# EAGLE library part AD5624R (library Lin-Temp-Controller)
AD5624R Quad Output DAC w/internal Vref
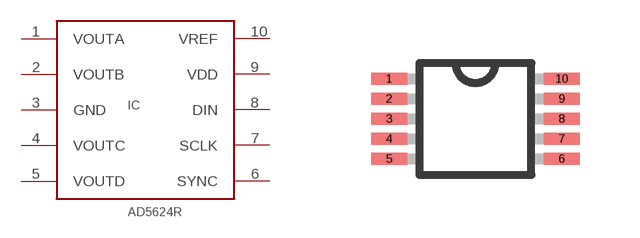
[diagram p2: symbol with the pads of MSOP10; footprint MSOP10]

Designator prefix IC

## AD5624R (DIGIKEY: AD5624RBRMZ-3-ND)  [MSOP10]
1  VOUTA  out
2  VOUTB  out
3  GND  pwr
4  VOUTC  out
5  VOUTD  out
6  SYNC
7  SCLK
8  DIN
9  VDD  pwr
10  VREF

## Footprint MSOP10 (pad centres in mm)
MSOP10 MSE Package 10-Lead Plastic MSOP (Reference LTC DWG # 05-08-1664) Auto generated by make-symbol-device-package-bsdl.ulp Rev. 43 Source: Data sheet <http://cds.linear.com/docs/Datasheet/3592fc.pdf>
smd 0.9 x 0.3: 1 -2.16,1; 2 -2.16,0.5; 3 -2.16,0; 4 -2.16,-0.5; 5 -2.16,-1; 6 2.16,-1; 7 2.16,-0.5; 8 2.16,0; 9 2.16,0.5; 10 2.16,1